# Altium schematic symbol library 693022010811.SchLib: 2 symbols
Pins are listed as number, name and electrical type; pins without a type are passive.

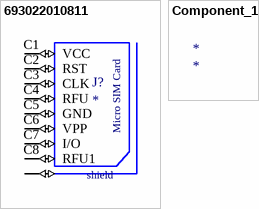
[diagram p0: symbols 693022010811 to Component_1]

## 693022010811
designator J?
<b>WR-CRD Micro SIM Card Connector Hinge Type <br> </b> <br> <b>KIND PROPERTIES  <br><br> </b>Quality Class:2 500 Mating cycles <br>Gender:Socket <br>Type:Hinge <br> <b>General Information <br><br> </b>Operating Temperature:-25 up to +85 В°C <br>Compliance:RoHS <br> <b>Electrical Properties <br><br> </b>IR 1:1 A <br>Working Voltage:15 V (AC) </b>Withstanding Voltage:500 V (AC) <br>Contact Resistance:30mО© <br> <br>Material Properties <br>Insulator MateriaL:LCP <br>Insulator Flammability Rating:UL94 V-0 <br>Color:Black <br>Contact Material:Copper Alloy <br>Contact Plating:Selective Gold <br>Contact Type:Stamped <br>Shielding Material:Stainless Steel <br>Shielding Plating:Nickel  <br><a href="https://www.we-online.de/katalog/media/o33064v209%20Family_WR-CRD_Micro_SIM_Hinge_8Pins_693022010811.jpg" title="Enlarge picture"> <img src="https://www.we-online.de/katalog/media/o33064v209%20Family_WR-CRD_Micro_SIM_Hinge_8Pins_693022010811.jpg"  width="320"></a><p> Details see: <a href="https://www.we-online.de/katalog/en/CRD_MICRO_SIM/">https://www.we-online.de/katalog/en/CRD_MICRO_SIM/</a><p>  Created by Yingchun,Shan  2019-11-21<br> 2019 (C) WГјrth Elektronik; MF: {'manufacturer': u'Wurth Electronics'}; Value: *; MP: 693022010811; Availability: Unavailable; Package: None; Price: None
footprint 693022010811
pins: C1 VCC (io), C2 RST (io), C3 CLK (io), C4 RFU (io), C5 GND (io), C6 VPP (io), C7 I/O (io), C8 RFU1 (io), S1 SHIELD (io), S2 SHIELD (io)
text: Micro SIM Card; shield

## Component_1
designator *